# EAGLE library part SN74HC164N (library other)
8-BIT PARALLEL-OUT SERIAL SHIFT REGISTERS Source: Datasheet <http://www.ti.com/lit/gpn/sn74hc164>
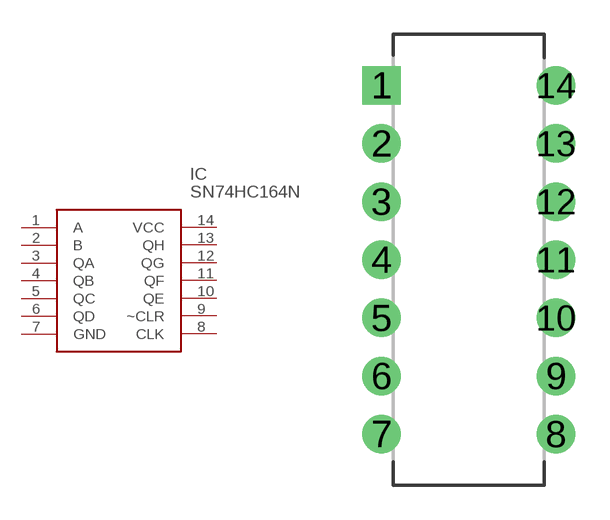
[diagram p7: symbol with the pads of DIP254P762X508-14; footprint DIP254P762X508-14]

Designator prefix IC

## SN74HC164N (ARROW_PART_NUMBER: SN74HC164N; ARROW_PRICE/STOCK: https://www.arrow.com/en/products/sn74hc164n/texas-instruments; DESCRIPTION: 8-BIT PARALLEL-OUT SERIAL SHIFT REGISTERS; HEIGHT: mm; MANUFACTURER_NAME: Texas Instruments; MANUFACTURER_PART_NUMBER: SN74HC164N; RS_PART_NUMBER: 2175594; RS_PRICE/STOCK: http://uk.rs-online.com/web/p/products/2175594)  [DIP254P762X508-14]
1  A
2  B
3  QA
4  QB
5  QC
6  QD
7  GND
8  CLK
9  ~CLR
10  QE
11  QF
12  QG
13  QH
14  VCC

## Footprint DIP254P762X508-14 (pad centres in mm)
DIP254P762X508-14
drill 1.118 pad 1.676 square: 1 -7.62,15.24
drill 1.118 pad 1.676: 2 -7.62,12.7; 3 -7.62,10.16; 4 -7.62,7.62; 5 -7.62,5.08; 6 -7.62,2.54; 7 -7.62,0; 8 0,0; 9 0,2.54; 10 0,5.08; 11 0,7.62; 12 0,10.16; 13 0,12.7; 14 0,15.24